# EAGLE library part FDS4897C (library robot-hand)
Dual N & P-Channel PowerTrench® MOSFET https://www.fairchildsemi.com/datasheets/FD/FDS4897C.pdf
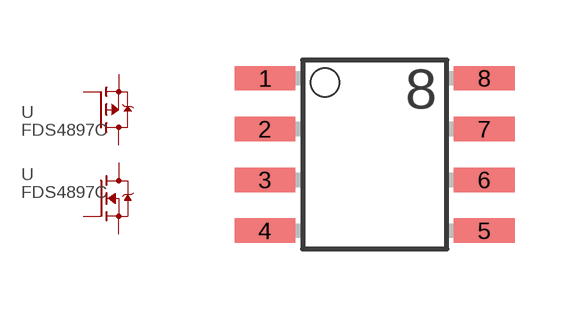
[diagram p0: symbol with the pads of FDS4897C; footprint FDS4897C]

Designator prefix -

## FDS4897C  [FDS4897C]
1  S1  pas
2  G1  pas
3  S2  pas
4  G2  pas
5  D2  pas
6  D2  pas
7  D1  pas
8  D1  pas

## Footprint FDS4897C (pad centres in mm)
https://www.fairchildsemi.com/datasheets/FD/FDS4897C.pdf
smd 1.524 x 0.61: 1 -2.743,1.905; 2 -2.743,0.635; 3 -2.743,-0.635; 4 -2.743,-1.905; 5 2.743,-1.905; 6 2.743,-0.635; 7 2.743,0.635; 8 2.743,1.905